# Altium schematic symbol library ERJ-6ENF8250V.SchLib: 1 symbol
Pins are listed as number, name and electrical type; pins without a type are passive.

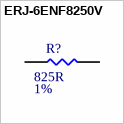
[diagram p0: symbol ERJ-6ENF8250V]

## ERJ-6ENF8250V
designator R?  Tolerance: 1%  Resistance: 825R  (hidden comment: ERJ-6ENF8250V)
RES SMD 825 OHM 1% 1/8W 0805; MFR: Panasonic; Qualifications: AEC-Q200; Power Rating: 1/4W; PN: ERJ-6ENF8250V; Package: 0805; ComponentLink1Description: Datasheet; ComponentLink1URL: https://www.mouser.ca/datasheet/2/315/AOA0000C304-1149620.pdf; Footprint: RES1206; Supplier 1: Digi-Key; Supplier Part Number 1: P825CCT-ND
footprint RES0805 (Generic 0805 PCB Footprint)
pins: 1, 2